# Altium footprint library Micrel.PcbLib: 1 footprints
Each footprint in its own frame and in the unit in brackets; x right, y up, seen from the top. Pads: shape width x height; smd on the part's side, far side on the other; paste and mask are expansions set on the pad; w line width, h text height; cw(c..) or ccw(c..) is an arc to the next point about the centre after c.
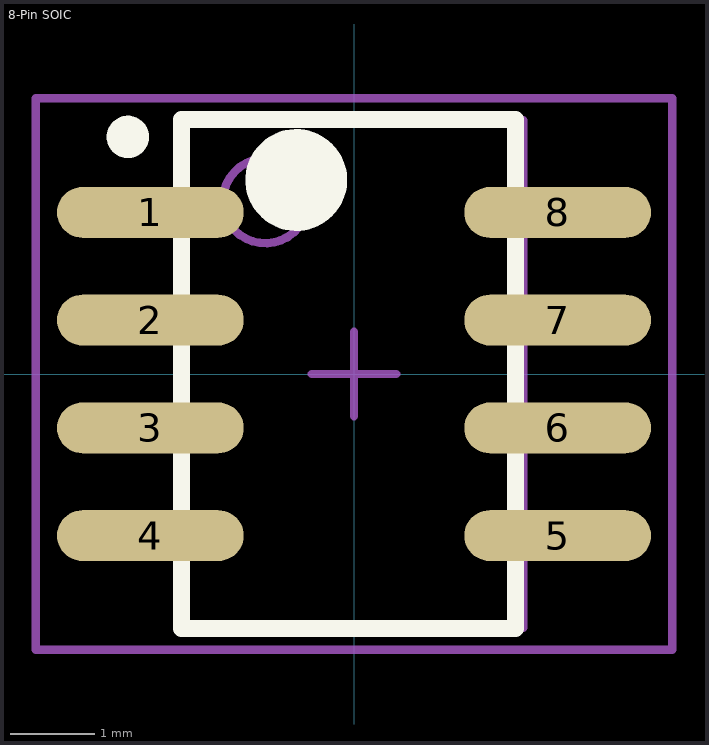
[diagram p0: the footprint, top view; thin cyan lines are the x and y axes]

## 8-Pin SOIC [mm] "SOIC, 8-Leads, Body 6.0x4.0mm (max), Pitch 1.27mm, IPC Medium Density"
height 1.73
pads (8):
  oval 2.2x0.6 smd: 1(-2.4,1.905) 2(-2.4,0.635) 3(-2.4,-0.635) 4(-2.4,-1.905) 5(2.4,-1.905) 6(2.4,-0.635) 7(2.4,0.635) 8(2.4,1.905)
Top Overlay:
  circle w0.6: c-0.681,2.286 r0.3
  circle w0.25: c-2.665,2.794 r0.125
  lines w0.2: -2.032,-3 1.905,-3 1.905,3 -2.032,3 -2.032,-3
Mechanical 13:
  circle w0.1: c-1.045,2.04 r0.5
  lines w0.1: -1.995,-2.99 1.995,-2.99 1.995,2.99 -1.995,2.99 -1.995,-2.99
Mechanical 15:
  lines w0.1: -0.5,0 0.5,0 ; 0,-0.5 0,0.5 ; -3.75,-3.25 3.75,-3.25 3.75,3.25 -3.75,3.25 -3.75,-3.25
3D body: height 1.73, standoff 0.25, extent -1.995,-2.99 1.995,2.99